# EAGLE library part NES-CART-R (library dan-nes)
NES cartridge edge connector - from console's perspective.
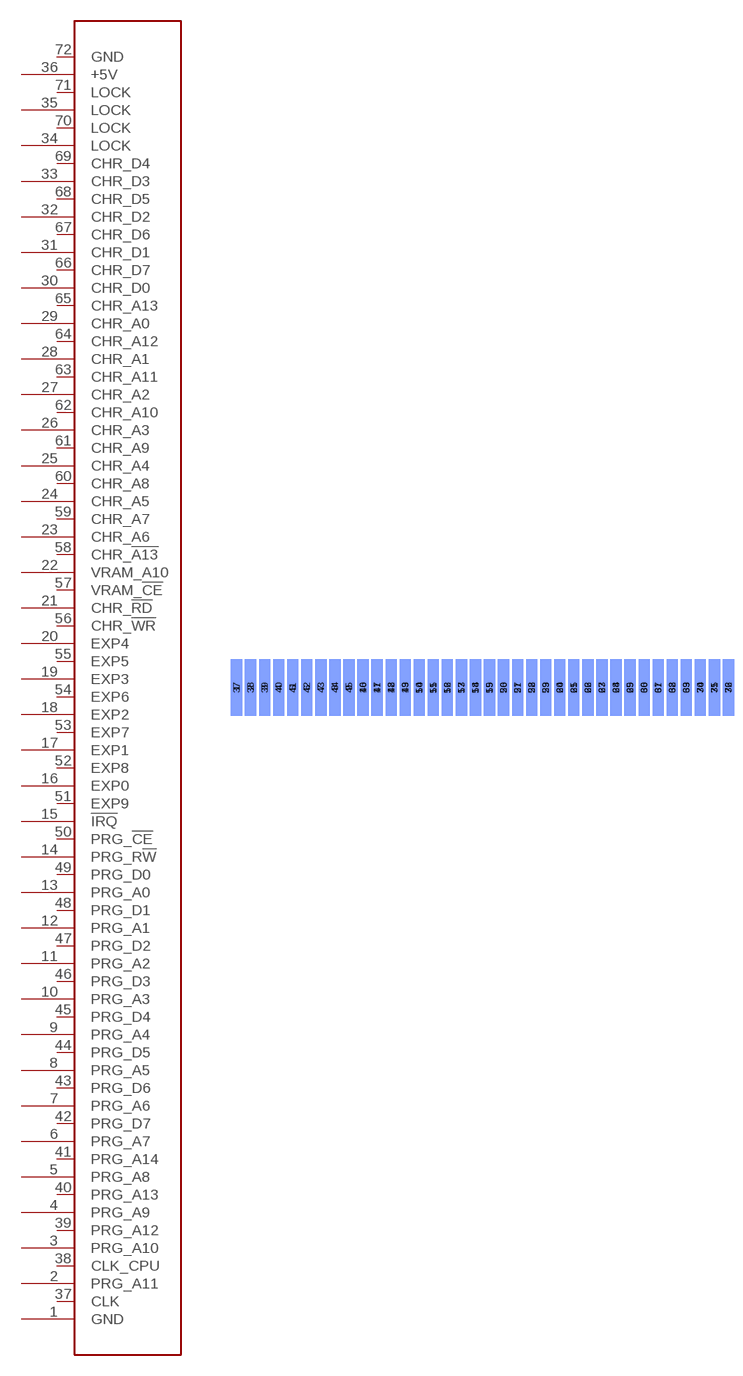
[diagram p0: symbol with the pads of EDGE-2.5MM-72PIN; footprint EDGE-2.5MM-72PIN]

Designator prefix J

## NES-CART-R  [EDGE-2.5MM-72PIN]
1  GND
2  PRG_A11  in
3  PRG_A10  in
4  PRG_A9  in
5  PRG_A8  in
6  PRG_A7  in
7  PRG_A6  in
8  PRG_A5  in
9  PRG_A4  in
10  PRG_A3  in
11  PRG_A2  in
12  PRG_A1  in
13  PRG_A0  in
14  PRG_R!W  in
15  !IRQ
16  EXP0
17  EXP1
18  EXP2
19  EXP3
20  EXP4
21  CHR_!RD  in
22  VRAM_A10  out
23  CHR_A6  in
24  CHR_A5  in
25  CHR_A4  in
26  CHR_A3  in
27  CHR_A2  in
28  CHR_A1  in
29  CHR_A0  in
30  CHR_D0
31  CHR_D1
32  CHR_D2
33  CHR_D3
34  LOCK
35  LOCK
36  +5V
37  CLK  in
38  CLK_CPU  in
39  PRG_A12  in
40  PRG_A13  in
41  PRG_A14  in
42  PRG_D7
43  PRG_D6
44  PRG_D5
45  PRG_D4
46  PRG_D3
47  PRG_D2
48  PRG_D1
49  PRG_D0
50  PRG_!CE  in
51  EXP9
52  EXP8
53  EXP7
54  EXP6
55  EXP5
56  CHR_!WR  in
57  VRAM_!CE  out
58  CHR_!A13  in
59  CHR_A7  in
60  CHR_A8  in
61  CHR_A9  in
62  CHR_A10  in
63  CHR_A11  in
64  CHR_A12  in
65  CHR_A13  in
66  CHR_D7
67  CHR_D6
68  CHR_D5
69  CHR_D4
70  LOCK
71  LOCK
72  GND

## Footprint EDGE-2.5MM-72PIN (pad centres in mm)
smd 2 x 10: 1 -43.75,0; 2 -41.25,0; 3 -38.75,0; 4 -36.25,0; 5 -33.75,0; 6 -31.25,0; 7 -28.75,0; 8 -26.25,0; 9 -23.75,0; 10 -21.25,0; 11 -18.75,0; 12 -16.25,0; 13 -13.75,0; 14 -11.25,0; 15 -8.75,0; 16 -6.25,0; 17 -3.75,0; 18 -1.25,0; 19 1.25,0; 20 3.75,0; 21 6.25,0; 22 8.75,0; 23 11.25,0; 24 13.75,0; 25 16.25,0; 26 18.75,0; 27 21.25,0; 28 23.75,0; 29 26.25,0; 30 28.75,0; 31 31.25,0; 32 33.75,0; 33 36.25,0; 34 38.75,0; 35 41.25,0; 36 43.75,0
smd 2 x 10 bottom: 37 -43.75,0; 38 -41.25,0; 39 -38.75,0; 40 -36.25,0; 41 -33.75,0; 42 -31.25,0; 43 -28.75,0; 44 -26.25,0; 45 -23.75,0; 46 -21.25,0; 47 -18.75,0; 48 -16.25,0; 49 -13.75,0; 50 -11.25,0; 51 -8.75,0; 52 -6.25,0; 53 -3.75,0; 54 -1.25,0; 55 1.25,0; 56 3.75,0; 57 6.25,0; 58 8.75,0; 59 11.25,0; 60 13.75,0; 61 16.25,0; 62 18.75,0; 63 21.25,0; 64 23.75,0; 65 26.25,0; 66 28.75,0; 67 31.25,0; 68 33.75,0; 69 36.25,0; 70 38.75,0; 71 41.25,0; 72 43.75,0